# EAGLE library part TRF37D73IDSGR (library Texas Instruments)
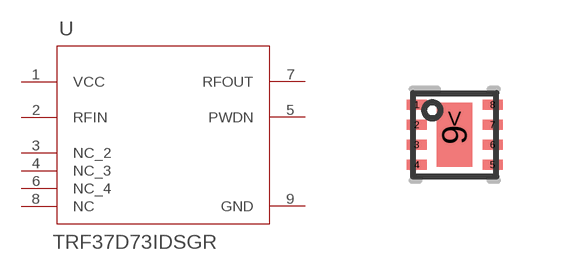
[diagram p22: symbol with the pads of DSG0008A; footprint DSG0008A]

Designator prefix U

## TRF37D73IDSGR (ALTERNATEPARTNUMBER: TRF37D73IDSGT; APPLICATION_BUILDNUMBER: *; COMPTYPE: IC; MANUFACTURER: Texas Instruments; MOUNTTYPE: SMT; PACKAGEREFERENCE: DSG0008A; PARTNUMBER: TRF37D73IDSGR; PIN_COUNT: 9; REFDES: RefDes; ROHS: Y; TYPE: TYPE; VALUE: Value)  [DSG0008A]
1  VCC  pwr
2  RFIN  in
3  NC_2  pas
4  NC_3  pas
5  PWDN  in
6  NC_4  pas
7  RFOUT  out
8  NC  pas
9  GND  pwr

## Footprint DSG0008A (pad centres in mm)
smd 0.508 x 0.254: 1 -0.95,0.75; 2 -0.95,0.25; 3 -0.95,-0.25; 4 -0.95,-0.75; 5 0.95,-0.75; 6 0.95,-0.25; 7 0.95,0.25; 8 0.95,0.75
smd 0.889 x 1.6: 9 0,0
smd 0.508 x 0.508: V 0,0.4